# EAGLE library part DAC7311 (library precision_tACS)
12-bit DAC7311
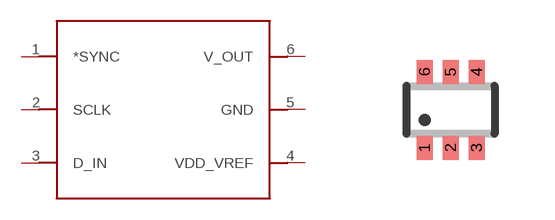
[diagram p0: symbol with the pads of SC70-6; footprint SC70-6]

Designator prefix -

## DAC7311  [SC70-6]
1  *SYNC
2  SCLK
3  D_IN
4  VDD_VREF
5  GND
6  V_OUT

## Footprint SC70-6 (pad centres in mm)
SC-70 Package - Texas Instruments
smd 0.4 x 0.6: 1 -0.65,-0.95; 2 0,-0.95; 3 0.65,-0.95; 4 0.65,0.95; 5 0,0.95; 6 -0.65,0.95